# EAGLE library part TSSOP-8 (library SMD_Qualifier)
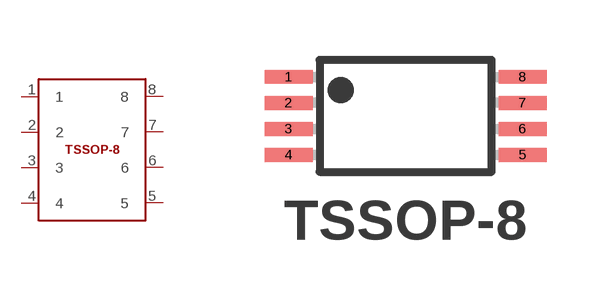
[diagram p10: symbol with the pads of TSSOP-8; footprint TSSOP-8]

Designator prefix -

## TSSOP-8  [TSSOP-8]
1  1
2  2  in
3  3
4  4
5  5
6  6
7  7
8  8

## Footprint TSSOP-8 (pad centres in mm)
TSSOP-8, 0.65 mm pitch
smd 1.2 x 0.35: 1 -2.925,0.975; 2 -2.925,0.325; 3 -2.925,-0.325; 4 -2.925,-0.975; 5 2.925,-0.975; 6 2.925,-0.325; 7 2.925,0.325; 8 2.925,0.975